# EAGLE library part 2X04_SMT (library pimoroni-connectors)
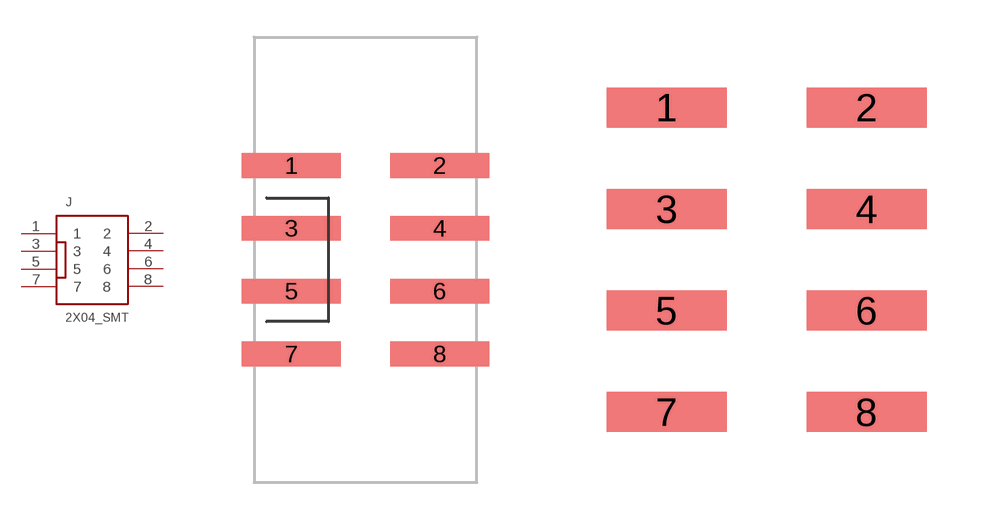
[diagram p11: symbol with the pads of 2X04_SMT_SHROUDED; footprints 2X04_SMT_SHROUDED, 2X04_SMT]

Designator prefix J

## 2X04_SMTSHROUDED  [2X04_SMT_SHROUDED]
1  1
2  2
3  3
4  4
5  5
6  6
7  7
8  8

## 2X04_SMT  [2X04_SMT]
Pads as for 2X04_SMT_SHROUDED

## 2X04_SMTSMALL  [2X04_SMT_SMALL]
Pads as for 2X04_SMT_SHROUDED

## Footprint 2X04_SMT_SHROUDED (pad centres in mm)
smd 4 x 1: 1 -3,3.81; 2 3,3.81; 3 -3,1.27; 4 3,1.27; 5 -3,-1.27; 6 3,-1.27; 7 -3,-3.81; 8 3,-3.81

## Footprint 2X04_SMT (pad centres in mm)
smd 3 x 1: 1 -2.5,3.81; 2 2.5,3.81; 3 -2.5,1.27; 4 2.5,1.27; 5 -2.5,-1.27; 6 2.5,-1.27; 7 -2.5,-3.81; 8 2.5,-3.81

## Footprint 2X04_SMT_SMALL (pad centres in mm)
smd 3 x 1.5: 1 -2,3.81; 2 2,3.81; 3 -2,1.27; 4 2,1.27; 5 -2,-1.27; 6 2,-1.27; 7 -2,-3.81; 8 2,-3.81